# Altium footprint library TC2050.PcbLib: 1 footprints
Each footprint in its own frame and in the unit in brackets; x right, y up, seen from the top. Pads: shape width x height; smd on the part's side, far side on the other; paste and mask are expansions set on the pad; w line width, h text height; cw(c..) or ccw(c..) is an arc to the next point about the centre after c.
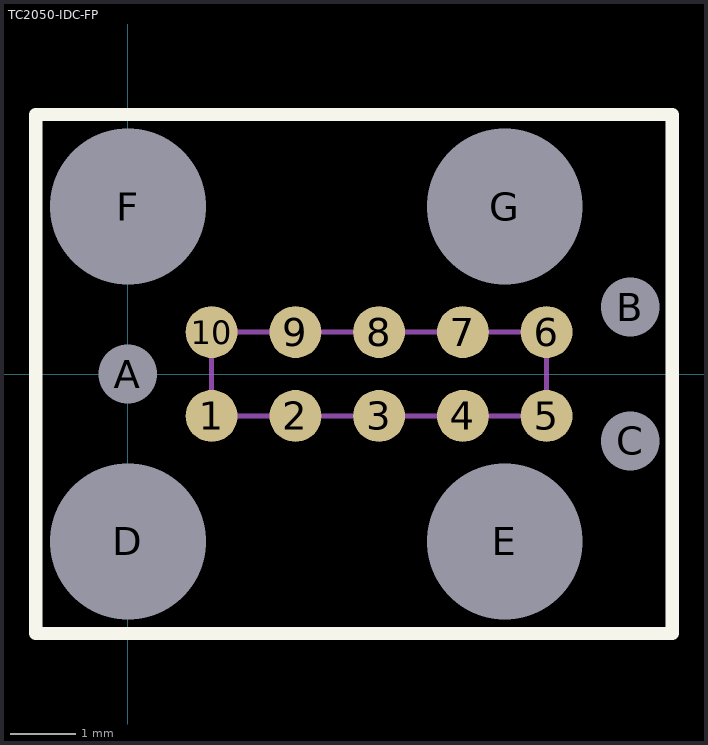
[diagram p0: the footprint, top view; thin cyan lines are the x and y axes]

## TC2050-IDC-FP [mil] "footprint for test cable"
pads (17):
  round 31 smd paste-40: 1(50,-25) 2(100,-25) 3(150,-25) 4(200,-25) 5(250,-25) 6(250,25) 7(200,25) 8(150,25) 9(100,25) 10(50,25)
  round 34 hole 35 unplated: A(0,0) B(300,40) C(300,-40)
  round 92 hole 93 unplated: D(0,-100) E(225,-100) F(0,100) G(225,100)
Top Overlay:
  lines w7.87: -55,-155 325,-155 325,155 -55,155 -55,-155
Mechanical 1:
  lines w3: 50,-25 250,-25 250,25 50,25 50,-25
  text "keepout" at 125,-5 h20